# Altium schematic symbol library 22-04-1041.SchLib: 1 symbol
Pins are listed as number, name and electrical type; pins without a type are passive.

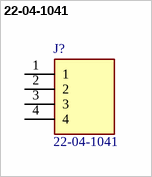
[diagram p0: symbol 22-04-1041]

## 22-04-1041
designator J?
Headers & Wire Housings .098 HDR VERT 4P; Manufacturer_Name: Molex; Geometry.Height: 12.1mm; Mouser Part Number: 538-22-04-1041; Mouser Price/Stock: https://www.mouser.co.uk/ProductDetail/Molex/22-04-1041?qs=KHty%2FoMxDPmNq3PD4JOsMQ%3D%3D; Manufacturer_Part_Number: 22-04-1041; Datasheet Link: https://www.molex.com/pdm_docs/sd/022041041_sd.pdf
footprint SHDR4W64P0X250_1X4_950X580X1210P
pins: 1, 2, 3, 4